# Altium footprint library WR-TBL_Pluggable Connector_7.62mm.PcbLib: 79 footprints (part 2 of 5)
Each footprint in its own frame and in the unit in brackets; x right, y up, seen from the top. Pads: shape width x height; smd on the part's side, far side on the other; paste and mask are expansions set on the pad; w line width, h text height; cw(c..) or ccw(c..) is an arc to the next point about the centre after c.
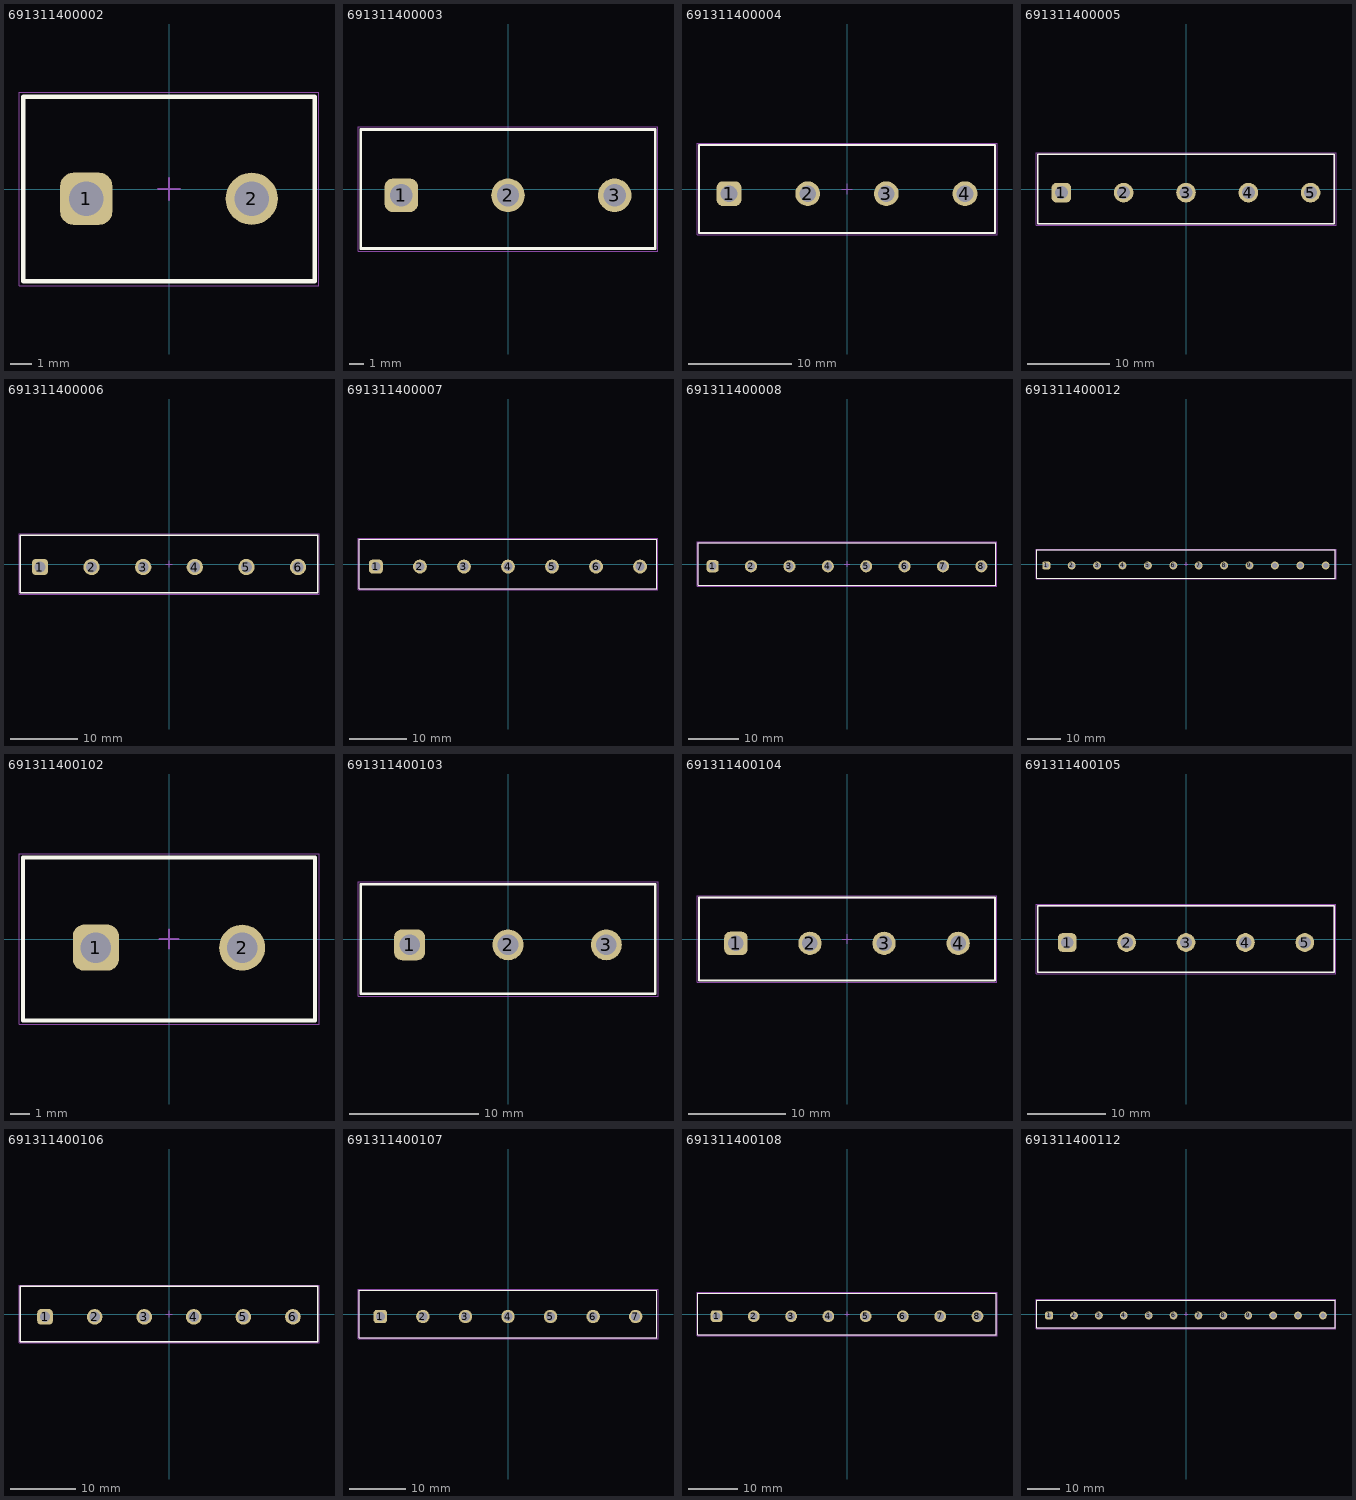
[diagram p1: the footprints below, top view; thin cyan lines are the x and y axes]

## 691311400002 [mm] "7.62 mm - Open Vertical PCB Header - 2p"
height 12
pads (2):
  rrect50% 2.4x2.4 hole 1.6: 1(-3.81,-0.45)
  round 2.4 hole 1.6: 2(3.81,-0.45)
Top Overlay:
  lines w0.2: -6.71,-4.25 -6.71,4.25 6.71,4.25 6.71,-4.25 -6.71,-4.25
Top Assembly:
  lines w0.1: -6.71,-4.25 6.71,-4.25 6.71,4.25 -6.71,4.25 -6.71,-4.25
Top Designator:
  text ".Designator" at -3.647,-0.357 h1
Top 3D Body:
  lines w0.1: -6.71,-4.25 -6.71,4.25 6.71,4.25 6.71,-4.25 -6.71,-4.25
Top Courtyard:
  lines w0.05: -6.91,-4.45 6.91,-4.45 6.91,4.45 -6.91,4.45 -6.91,-4.45
Top Component Center:
  lines w0.1: -0.5,0 0.5,0 ; 0,-0.5 0,0.5
3D body "691311400002.stp": height 12.05, standoff -3.95, extent -6.71,-4.25 6.71,4.25

## 691311400003 [mm] "7.62 mm - Open Vertical PCB Header - 3p"
height 12
pads (3):
  rrect50% 2.4x2.4 hole 1.6: 1(-7.62,-0.45)
  round 2.4 hole 1.6: 2(0,-0.45) 3(7.62,-0.45)
Top Overlay:
  lines w0.2: -10.52,-4.25 -10.52,4.25 10.52,4.25 10.52,-4.25 -10.52,-4.25
Top Assembly:
  lines w0.1: -10.52,-4.25 10.52,-4.25 10.52,4.25 -10.52,4.25 -10.52,-4.25
Top Designator:
  text ".Designator" at -3.647,-0.357 h1
Top 3D Body:
  lines w0.1: -10.52,-4.25 -10.52,4.25 10.52,4.25 10.52,-4.25 -10.52,-4.25
Top Courtyard:
  lines w0.05: -10.72,-4.45 10.72,-4.45 10.72,4.45 -10.72,4.45 -10.72,-4.45
Top Component Center:
  lines w0.1: -0.5,0 0.5,0 ; 0,-0.5 0,0.5
3D body "691311400003.stp": height 12.05, standoff -3.95, extent -10.52,-4.25 10.52,4.25

## 691311400004 [mm] "7.62 mm - Open Vertical PCB Header - 4p"
height 12
pads (4):
  rrect50% 2.4x2.4 hole 1.6: 1(-11.43,-0.45)
  round 2.4 hole 1.6: 2(-3.81,-0.45) 3(3.81,-0.45) 4(11.43,-0.45)
Top Overlay:
  lines w0.2: -14.33,-4.25 14.33,-4.25 14.33,4.25 -14.33,4.25 -14.33,-4.25
Top Assembly:
  lines w0.1: -14.33,-4.25 -14.33,4.25 14.33,4.25 14.33,-4.25 -14.33,-4.25
Top Designator:
  text ".Designator" at -3.647,-0.357 h1
Top 3D Body:
  lines w0.1: -14.33,-4.25 14.33,-4.25 14.33,4.25 -14.33,4.25 -14.33,-4.25
Top Courtyard:
  lines w0.05: -14.53,-4.45 -14.53,4.45 14.53,4.45 14.53,-4.45 -14.53,-4.45
Top Component Center:
  lines w0.1: -0.5,0 0.5,0 ; 0,-0.5 0,0.5
3D body "691311400004.stp": height 12.05, standoff -3.95, extent -14.33,-4.25 14.33,4.25

## 691311400005 [mm] "7.62 mm - Open Vertical PCB Header - 5p"
height 12
pads (5):
  rrect50% 2.4x2.4 hole 1.6: 1(-15.24,-0.45)
  round 2.4 hole 1.6: 2(-7.62,-0.45) 3(0,-0.45) 4(7.62,-0.45) 5(15.24,-0.45)
Top Overlay:
  lines w0.2: -18.14,-4.25 18.14,-4.25 18.14,4.25 -18.14,4.25 -18.14,-4.25
Top Assembly:
  lines w0.1: -18.14,-4.25 -18.14,4.25 18.14,4.25 18.14,-4.25 -18.14,-4.25
Top Designator:
  text ".Designator" at -3.647,-0.357 h1
Top 3D Body:
  lines w0.1: -18.14,-4.25 18.14,-4.25 18.14,4.25 -18.14,4.25 -18.14,-4.25
Top Courtyard:
  lines w0.05: -18.34,-4.45 -18.34,4.45 18.34,4.45 18.34,-4.45 -18.34,-4.45
Top Component Center:
  lines w0.1: -0.5,0 0.5,0 ; 0,-0.5 0,0.5
3D body "691311400005.stp": height 12.05, standoff -3.95, extent -18.14,-4.25 18.14,4.25

## 691311400006 [mm] "7.62 mm - Open Vertical PCB Header - 6p"
height 12
pads (6):
  rrect50% 2.4x2.4 hole 1.6: 1(-19.05,-0.45)
  round 2.4 hole 1.6: 2(-11.43,-0.45) 3(-3.81,-0.45) 4(3.81,-0.45) 5(11.43,-0.45) 6(19.05,-0.45)
Top Overlay:
  lines w0.2: -21.95,-4.25 -21.95,4.25 21.95,4.25 21.95,-4.25 -21.95,-4.25
Top Assembly:
  lines w0.1: -21.95,-4.25 21.95,-4.25 21.95,4.25 -21.95,4.25 -21.95,-4.25
Top Designator:
  text ".Designator" at -3.647,-0.357 h1
Top 3D Body:
  lines w0.1: -21.95,-4.25 -21.95,4.25 21.95,4.25 21.95,-4.25 -21.95,-4.25
Top Courtyard:
  lines w0.05: -22.15,-4.45 22.15,-4.45 22.15,4.45 -22.15,4.45 -22.15,-4.45
Top Component Center:
  lines w0.1: -0.5,0 0.5,0 ; 0,-0.5 0,0.5
3D body "691311400006.stp": height 12.05, standoff -3.95, extent -21.95,-4.25 21.95,4.25

## 691311400007 [mm] "7.62 mm - Open Vertical PCB Header - 7p"
height 12
pads (7):
  rrect50% 2.4x2.4 hole 1.6: 1(-22.86,-0.45)
  round 2.4 hole 1.6: 2(-15.24,-0.45) 3(-7.62,-0.45) 4(0,-0.45) 5(7.62,-0.45) 6(15.24,-0.45) 7(22.86,-0.45)
Top Overlay:
  lines w0.2: -25.76,-4.25 25.76,-4.25 25.76,4.25 -25.76,4.25 -25.76,-4.25
Top Assembly:
  lines w0.1: -25.76,-4.25 -25.76,4.25 25.76,4.25 25.76,-4.25 -25.76,-4.25
Top Designator:
  text ".Designator" at -3.647,-0.357 h1
Top 3D Body:
  lines w0.1: -25.76,-4.25 25.76,-4.25 25.76,4.25 -25.76,4.25 -25.76,-4.25
Top Courtyard:
  lines w0.05: -25.96,-4.45 -25.96,4.45 25.96,4.45 25.96,-4.45 -25.96,-4.45
Top Component Center:
  lines w0.1: -0.5,0 0.5,0 ; 0,-0.5 0,0.5
3D body "691311400007.stp": height 12.05, standoff -3.95, extent -25.76,-4.25 25.76,4.25

## 691311400008 [mm] "7.62 mm - Open Vertical PCB Header - 8p"
height 12
pads (8):
  rrect50% 2.4x2.4 hole 1.6: 1(-26.67,-0.45)
  round 2.4 hole 1.6: 2(-19.05,-0.45) 3(-11.43,-0.45) 4(-3.81,-0.45) 5(3.81,-0.45) 6(11.43,-0.45) 7(19.05,-0.45) 8(26.67,-0.45)
Top Overlay:
  lines w0.2: -29.57,-4.25 -29.57,4.25 29.57,4.25 29.57,-4.25 -29.57,-4.25
Top Assembly:
  lines w0.1: -29.57,-4.25 29.57,-4.25 29.57,4.25 -29.57,4.25 -29.57,-4.25
Top Designator:
  text ".Designator" at -3.647,-0.357 h1
Top 3D Body:
  lines w0.1: -29.57,-4.25 -29.57,4.25 29.57,4.25 29.57,-4.25 -29.57,-4.25
Top Courtyard:
  lines w0.05: -29.77,-4.45 29.77,-4.45 29.77,4.45 -29.77,4.45 -29.77,-4.45
Top Component Center:
  lines w0.1: -0.5,0 0.5,0 ; 0,-0.5 0,0.5
3D body "691311400008.stp": height 12.05, standoff -3.95, extent -29.57,-4.25 29.57,4.25

## 691311400012 [mm] "7.62 mm - Open Vertical PCB Header - 12p"
height 12
pads (12):
  rrect50% 2.4x2.4 hole 1.6: 1(-41.91,-0.45)
  round 2.4 hole 1.6: 2(-34.29,-0.45) 3(-26.67,-0.45) 4(-19.05,-0.45) 5(-11.43,-0.45) 6(-3.81,-0.45) 7(3.81,-0.45) 8(11.43,-0.45) 9(19.05,-0.45) 10(26.67,-0.45) 11(34.29,-0.45) 12(41.91,-0.45)
Top Overlay:
  lines w0.2: -44.81,-4.25 -44.81,4.25 44.81,4.25 44.81,-4.25 -44.81,-4.25
Top Assembly:
  lines w0.1: -44.81,-4.25 44.81,-4.25 44.81,4.25 -44.81,4.25 -44.81,-4.25
Top Designator:
  text ".Designator" at -3.647,-0.357 h1
Top 3D Body:
  lines w0.1: -44.81,-4.25 -44.81,4.25 44.81,4.25 44.81,-4.25 -44.81,-4.25
Top Courtyard:
  lines w0.05: -45.01,-4.45 45.01,-4.45 45.01,4.45 -45.01,4.45 -45.01,-4.45
Top Component Center:
  lines w0.1: -0.5,0 0.5,0 ; 0,-0.5 0,0.5
3D body "691311400012.stp": height 12.05, standoff -3.95, extent -44.81,-4.25 44.81,4.25

## 691311400102 [mm] "7.62 mm - Closed Vertical PCB Header - 2p"
height 12
pads (2):
  rrect50% 2.4x2.4 hole 1.6: 1(-3.81,-0.45)
  round 2.4 hole 1.6: 2(3.81,-0.45)
Top Overlay:
  lines w0.2: -7.61,-4.25 7.61,-4.25 7.61,4.25 -7.61,4.25 -7.61,-4.25
Top Assembly:
  lines w0.1: -7.61,-4.25 -7.61,4.25 7.61,4.25 7.61,-4.25 -7.61,-4.25
Top Designator:
  text ".Designator" at -3.647,-0.357 h1
Top 3D Body:
  lines w0.1: -7.61,-4.25 7.61,-4.25 7.61,4.25 -7.61,4.25 -7.61,-4.25
Top Courtyard:
  lines w0.05: -7.81,-4.45 7.81,-4.45 7.81,4.45 -7.81,4.45 -7.81,-4.45
Top Component Center:
  lines w0.1: -0.5,0 0.5,0 ; 0,-0.5 0,0.5
3D body "691311400102.stp": height 12.05, standoff -3.95, extent -7.62,-4.26 7.62,4.24

## 691311400103 [mm] "7.62 mm - Closed Vertical PCB Header - 3p"
height 12
pads (3):
  rrect50% 2.4x2.4 hole 1.6: 1(-7.62,-0.45)
  round 2.4 hole 1.6: 2(0,-0.45) 3(7.62,-0.45)
Top Overlay:
  lines w0.2: -11.42,-4.25 -11.42,4.25 11.42,4.25 11.42,-4.25 -11.42,-4.25
Top Assembly:
  lines w0.1: -11.42,-4.25 11.42,-4.25 11.42,4.25 -11.42,4.25 -11.42,-4.25
Top Designator:
  text ".Designator" at -3.647,-0.357 h1
Top 3D Body:
  lines w0.1: -11.42,-4.25 -11.42,4.25 11.42,4.25 11.42,-4.25 -11.42,-4.25
Top Courtyard:
  lines w0.05: -11.62,-4.45 -11.62,4.45 11.62,4.45 11.62,-4.45 -11.62,-4.45
Top Component Center:
  lines w0.1: -0.5,0 0.5,0 ; 0,-0.5 0,0.5
3D body "691311400103.stp": height 12.05, standoff -3.95, extent -11.43,-4.25 11.43,4.25

## 691311400104 [mm] "7.62 mm - Closed Vertical PCB Header - 4p"
height 12
pads (4):
  rrect50% 2.4x2.4 hole 1.6: 1(-11.43,-0.45)
  round 2.4 hole 1.6: 2(-3.81,-0.45) 3(3.81,-0.45) 4(11.43,-0.45)
Top Overlay:
  lines w0.2: -15.23,-4.25 -15.23,4.25 15.23,4.25 15.23,-4.25 -15.23,-4.25
Top Assembly:
  lines w0.1: -15.23,-4.25 15.23,-4.25 15.23,4.25 -15.23,4.25 -15.23,-4.25
Top Designator:
  text ".Designator" at -3.647,-0.357 h1
Top 3D Body:
  lines w0.1: -15.23,-4.25 -15.23,4.25 15.23,4.25 15.23,-4.25 -15.23,-4.25
Top Courtyard:
  lines w0.05: -15.43,-4.45 -15.43,4.45 15.43,4.45 15.43,-4.45 -15.43,-4.45
Top Component Center:
  lines w0.1: -0.5,0 0.5,0 ; 0,-0.5 0,0.5
3D body "691311400104.stp": height 12.05, standoff -3.95, extent -15.24,-4.25 15.24,4.25

## 691311400105 [mm] "7.62 mm - Closed Vertical PCB Header - 5p"
height 12
pads (5):
  rrect50% 2.4x2.4 hole 1.6: 1(-15.24,-0.45)
  round 2.4 hole 1.6: 2(-7.62,-0.45) 3(0,-0.45) 4(7.62,-0.45) 5(15.24,-0.45)
Top Overlay:
  lines w0.2: -19.04,-4.25 -19.04,4.25 19.04,4.25 19.04,-4.25 -19.04,-4.25
Top Assembly:
  lines w0.1: -19.04,-4.25 19.04,-4.25 19.04,4.25 -19.04,4.25 -19.04,-4.25
Top Designator:
  text ".Designator" at -3.647,-0.357 h1
Top 3D Body:
  lines w0.1: -19.04,-4.25 -19.04,4.25 19.04,4.25 19.04,-4.25 -19.04,-4.25
Top Courtyard:
  lines w0.05: -19.24,-4.45 -19.24,4.45 19.24,4.45 19.24,-4.45 -19.24,-4.45
Top Component Center:
  lines w0.1: -0.5,0 0.5,0 ; 0,-0.5 0,0.5
3D body "691311400105.stp": height 12.05, standoff -3.95, extent -19.05,-4.25 19.05,4.25

## 691311400106 [mm] "7.62 mm - Closed Vertical PCB Header - 6p"
height 12
pads (6):
  rrect50% 2.4x2.4 hole 1.6: 1(-19.05,-0.45)
  round 2.4 hole 1.6: 2(-11.43,-0.45) 3(-3.81,-0.45) 4(3.81,-0.45) 5(11.43,-0.45) 6(19.05,-0.45)
Top Overlay:
  lines w0.2: -22.85,-4.25 22.85,-4.25 22.85,4.25 -22.85,4.25 -22.85,-4.25
Top Assembly:
  lines w0.1: -22.85,-4.25 -22.85,4.25 22.85,4.25 22.85,-4.25 -22.85,-4.25
Top Designator:
  text ".Designator" at -3.647,-0.357 h1
Top 3D Body:
  lines w0.1: -22.85,-4.25 22.85,-4.25 22.85,4.25 -22.85,4.25 -22.85,-4.25
Top Courtyard:
  lines w0.05: -23.05,-4.45 23.05,-4.45 23.05,4.45 -23.05,4.45 -23.05,-4.45
Top Component Center:
  lines w0.1: -0.5,0 0.5,0 ; 0,-0.5 0,0.5
3D body "691311400106.stp": height 12.05, standoff -3.95, extent -22.86,-4.25 22.86,4.25

## 691311400107 [mm] "7.62 mm - Closed Vertical PCB Header - 7p"
height 12
pads (7):
  rrect50% 2.4x2.4 hole 1.6: 1(-22.86,-0.45)
  round 2.4 hole 1.6: 2(-15.24,-0.45) 3(-7.62,-0.45) 4(0,-0.45) 5(7.62,-0.45) 6(15.24,-0.45) 7(22.86,-0.45)
Top Overlay:
  lines w0.2: -26.66,-4.25 -26.66,4.25 26.66,4.25 26.66,-4.25 -26.66,-4.25
Top Assembly:
  lines w0.1: -26.66,-4.25 26.66,-4.25 26.66,4.25 -26.66,4.25 -26.66,-4.25
Top Designator:
  text ".Designator" at -3.647,-0.357 h1
Top 3D Body:
  lines w0.1: -26.66,-4.25 -26.66,4.25 26.66,4.25 26.66,-4.25 -26.66,-4.25
Top Courtyard:
  lines w0.05: -26.86,-4.45 -26.86,4.45 26.86,4.45 26.86,-4.45 -26.86,-4.45
Top Component Center:
  lines w0.1: -0.5,0 0.5,0 ; 0,-0.5 0,0.5
3D body "691311400107.stp": height 12.05, standoff -3.95, extent -26.67,-4.25 26.67,4.25

## 691311400108 [mm] "7.62 mm - Closed Vertical PCB Header - 8p"
height 12
pads (8):
  rrect50% 2.4x2.4 hole 1.6: 1(-26.67,-0.45)
  round 2.4 hole 1.6: 2(-19.05,-0.45) 3(-11.43,-0.45) 4(-3.81,-0.45) 5(3.81,-0.45) 6(11.43,-0.45) 7(19.05,-0.45) 8(26.67,-0.45)
Top Overlay:
  lines w0.2: -30.47,-4.25 -30.47,4.25 30.47,4.25 30.47,-4.25 -30.47,-4.25
Top Assembly:
  lines w0.1: -30.47,-4.25 30.47,-4.25 30.47,4.25 -30.47,4.25 -30.47,-4.25
Top Designator:
  text ".Designator" at -3.647,-0.357 h1
Top 3D Body:
  lines w0.1: -30.47,-4.25 -30.47,4.25 30.47,4.25 30.47,-4.25 -30.47,-4.25
Top Courtyard:
  lines w0.05: -30.67,-4.45 -30.67,4.45 30.67,4.45 30.67,-4.45 -30.67,-4.45
Top Component Center:
  lines w0.1: -0.5,0 0.5,0 ; 0,-0.5 0,0.5
3D body "691311400108.stp": height 12.05, standoff -3.95, extent -30.48,-4.25 30.48,4.25

## 691311400112 [mm] "7.62 mm - Closed Vertical PCB Header - 12p"
height 12
pads (12):
  rrect50% 2.4x2.4 hole 1.6: 1(-41.91,-0.45)
  round 2.4 hole 1.6: 2(-34.29,-0.45) 3(-26.67,-0.45) 4(-19.05,-0.45) 5(-11.43,-0.45) 6(-3.81,-0.45) 7(3.81,-0.45) 8(11.43,-0.45) 9(19.05,-0.45) 10(26.67,-0.45) 11(34.29,-0.45) 12(41.91,-0.45)
Top Overlay:
  lines w0.2: -45.71,-4.25 -45.71,4.25 45.71,4.25 45.71,-4.25 -45.71,-4.25
Top Assembly:
  lines w0.1: -45.71,-4.25 45.71,-4.25 45.71,4.25 -45.71,4.25 -45.71,-4.25
Top Designator:
  text ".Designator" at -3.647,-0.357 h1
Top 3D Body:
  lines w0.1: -45.71,-4.25 -45.71,4.25 45.71,4.25 45.71,-4.25 -45.71,-4.25
Top Courtyard:
  lines w0.05: -45.91,-4.45 -45.91,4.45 45.91,4.45 45.91,-4.45 -45.91,-4.45
Top Component Center:
  lines w0.1: -0.5,0 0.5,0 ; 0,-0.5 0,0.5
3D body "691311400112.stp": height 12.05, standoff -3.95, extent -45.72,-4.25 45.72,4.25